# Altium footprint library STM32F411CEU6 cencor.PcbLib: 1 footprints
Each footprint in its own frame and in the unit in brackets; x right, y up, seen from the top. Pads: shape width x height; smd on the part's side, far side on the other; paste and mask are expansions set on the pad; w line width, h text height; cw(c..) or ccw(c..) is an arc to the next point about the centre after c.
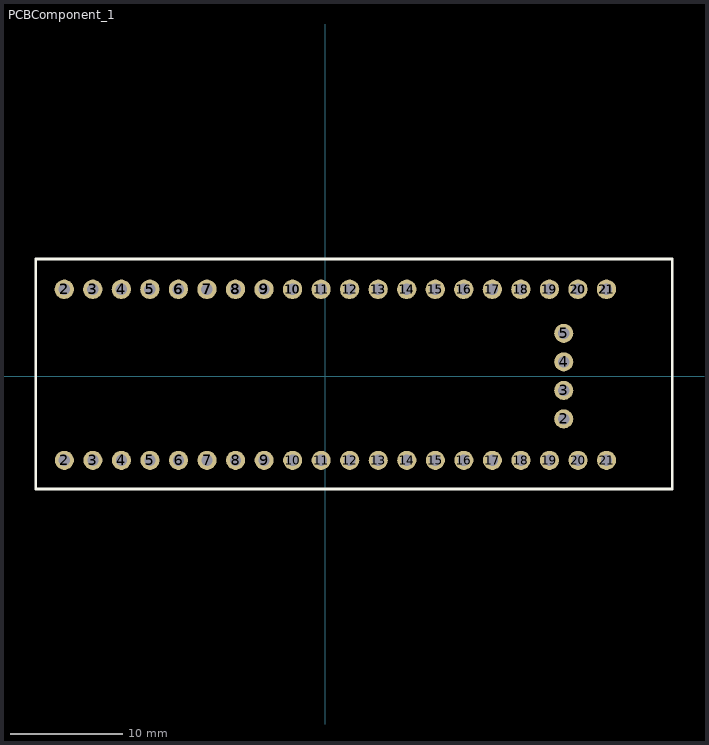
[diagram p0: the footprint, top view; thin cyan lines are the x and y axes]

## PCBComponent_1 [mm]
pads (64):
  round 1.7 hole 1: 2(-23.257,7.714) 2(-23.241,-7.493) 2(-23.241,7.747) 2(21.209,-3.81) 3(-20.717,7.714) 3(-20.701,-7.493) 3(-20.701,7.747) 3(21.209,-1.27) 4(-18.177,7.714) 4(-18.161,-7.493) 4(-18.161,7.747) 4(21.209,1.27) 5(-15.637,7.714) 5(-15.621,-7.493) 5(-15.621,7.747) 5(21.209,3.81) 6(-13.097,7.714) 6(-13.081,-7.493) 6(-13.081,7.747) 7(-10.557,7.714) 7(-10.541,-7.493) 7(-10.541,7.747) 8(-8.017,7.714) 8(-8.001,-7.493) 8(-8.001,7.747) 9(-5.477,7.714) 9(-5.461,-7.493) 9(-5.461,7.747) 10(-2.937,7.714) 10(-2.921,-7.493) 10(-2.921,7.747) 11(-0.397,7.714) 11(-0.381,-7.493) 11(-0.381,7.747) 12(2.143,7.714) 12(2.159,-7.493) 12(2.159,7.747) 13(4.683,7.714) 13(4.699,-7.493) 13(4.699,7.747) 14(7.223,7.714) 14(7.239,-7.493) 14(7.239,7.747) 15(9.763,7.714) 15(9.779,-7.493) 15(9.779,7.747) 16(12.303,7.714) 16(12.319,-7.493) 16(12.319,7.747) 17(14.843,7.714) 17(14.859,-7.493) 17(14.859,7.747) 18(17.383,7.714) 18(17.399,-7.493) 18(17.399,7.747) 19(19.923,7.714) 19(19.939,-7.493) 19(19.939,7.747) 20(22.463,7.714) 20(22.479,-7.493) 20(22.479,7.747) 21(25.003,7.714) 21(25.019,-7.493) 21(25.019,7.747)
Top Overlay:
  lines w0.254: -25.781,-10.033 30.861,-10.033 30.861,10.414 -25.781,10.414 -25.781,-10.033
3D body "Black Pill.step": height 3.16, standoff -10.26, extent -25.781,-10.033 30.859,10.287